# EAGLE library part SN74LV4052A (library ICs)
ANALOG MUX/DMUX, DUAL 4 X 1, TSSOP16
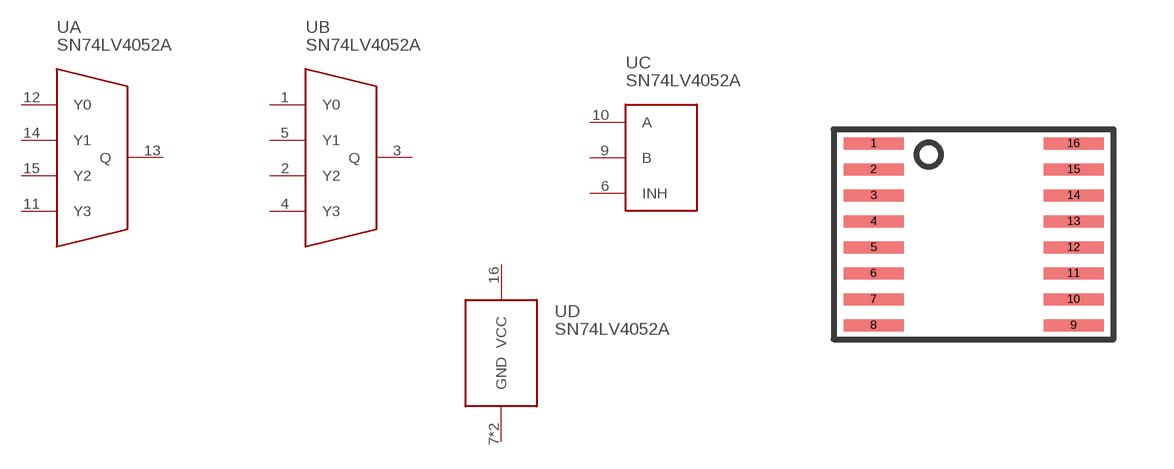
[diagram p149: symbol with the pads of SSOP16-4.5MM; footprint SSOP16-4.5MM]

Designator prefix U; gates A=MUX_4:1 B=MUX_4:1 C=MUX_CONTROL_2BIT D=MUX_PWR

## SN74LV4052A (FARNELL: 2120461; PRICE_PER: 0.292; VALUE: SN74LV4052)  [SSOP16-4.5MM]
1  B:Y0
2  B:Y2
3  B:Q
4  B:Y3
5  B:Y1
6  C:INH
7  D:GND
8  D:GND
9  C:B
10  C:A
11  A:Y3
12  A:Y0
13  A:Q
14  A:Y1
15  A:Y2
16  D:VCC

## Footprint SSOP16-4.5MM (pad centres in mm)
smd 1.5 x 0.3: 1 -2.5,2.275; 2 -2.5,1.625; 3 -2.5,0.975; 4 -2.5,0.325; 5 -2.5,-0.325; 6 -2.5,-0.975; 7 -2.5,-1.625; 8 -2.5,-2.275; 9 2.5,-2.275; 10 2.5,-1.625; 11 2.5,-0.975; 12 2.5,-0.325; 13 2.5,0.325; 14 2.5,0.975; 15 2.5,1.625; 16 2.5,2.275